# Altium schematic symbol library RES,40k2,0.5%,0.1W,0402.Schlib: 1 symbol
Pins are listed as number, name and electrical type; pins without a type are passive.

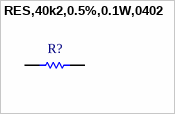
[diagram p0: symbol RES,40k2,0.5%,0.1W,0402]

## RES,40k2,0.5%,0.1W,0402
designator R?
pins: 1, 2